# Altium footprint library DIP-DBL  0607.PCBLIB: 54 footprints (part 4 of 4)
Each footprint in its own frame and in the unit in brackets; x right, y up, seen from the top. Pads: shape width x height; smd on the part's side, far side on the other; paste and mask are expansions set on the pad; w line width, h text height; cw(c..) or ccw(c..) is an arc to the next point about the centre after c.
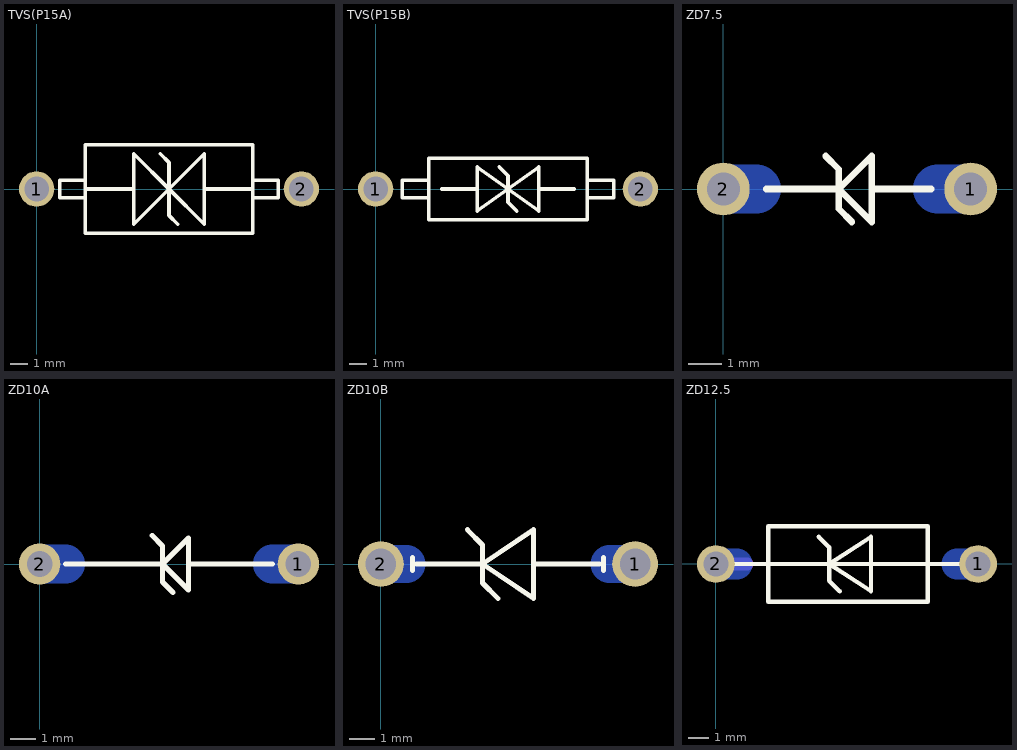
[diagram p3: the footprints below, top view; thin cyan lines are the x and y axes]

## TVS(P15A) [mm]
pads (2):
  round 2 hole 1.4: 1(0,0) 2(15,0)
TopOverlay:
  lines w0.2: 2.75,-0.5 1.3,-0.5 1.3,0.5 2.75,0.5 ; 2.75,0 5.5,0 ; 7,2 7.5,1.5 7.5,-1.5 8,-2 ; 9.5,0 12.15,0 ; 12.25,-0.5 13.7,-0.5 13.7,0.5 12.25,0.5 ; 2.75,-2.5 12.25,-2.5 12.25,2.5 2.75,2.5 2.75,-2.5 ; 5.5,-2 5.5,2 7.5,0 9.5,-2 9.5,2 5.5,-2

## TVS(P15B) [mm]
pads (2):
  round 2 hole 1.4: 1(0,0) 2(15,0)
TopOverlay:
  lines w0.2: 3,-0.5 1.5,-0.5 1.5,0.5 3,0.5 ; 3.75,0 5.75,0 ; 7,1.25 7.5,0.75 7.5,-0.75 8,-1.25 ; 9.25,0 11.25,0 ; 12,-0.5 13.5,-0.5 13.5,0.5 12,0.5 ; 7.5,0 9.25,-1.25 9.25,1.25 7.5,0 ; 7.5,0 7.5,0 ; 7.5,0 5.75,-1.25 5.75,1.25 7.5,0 ; 7.5,0 7.5,0 ; 3,-1.75 12,-1.75 12,1.75 3,1.75 3,-1.75

## ZD7.5 [mm]
pads (2):
  round 1.6 hole 1: 1(7.5,0) 2(0,0)
BottomLayer:
  lines w1.5: 0,0 1,0 ; 6.5,0 7.5,0
TopOverlay:
  lines w0.2: 1.3,0 3.5,0 ; 3.1,1 3.5,0.6 3.5,-0.6 3.9,-1 ; 4.5,0 6.3,0 ; 3.5,0 4.5,-1 4.5,1 3.5,0
BottomSolder:
  lines w1: 0,0 1,0 ; 6.5,0 7.5,0

## ZD10A [mm]
pads (2):
  round 1.6 hole 1: 1(10,0) 2(0,0)
BottomLayer:
  lines w1.5: 0,0 1,0 ; 9,0 10,0
TopOverlay:
  lines w0.2: 1,0 4.75,0 ; 4.35,1.1 4.75,0.7 4.75,-0.7 5.15,-1.1 ; 5.75,0 9,0 ; 4.75,0 5.75,-1 5.75,1 4.75,0
BottomSolder:
  lines w1: 0,0 1,0 ; 9,0 10,0

## ZD10B [mm]
pads (2):
  round 1.8 hole 1.2: 1(10,0) 2(0,0)
BottomLayer:
  lines w1.5: 0,0 1,0 ; 9,0 10,0
TopOverlay:
  lines w0.2: 1.4,0 4,0 ; 3.4,1.35 4,0.75 4,-0.75 4.6,-1.35 ; 6,0 8.6,0 ; 4,0 6,1.35 6,-1.35 4,0
  lines w0.203: 1.25,-0.25 1.25,0.25 ; 8.75,-0.25 8.75,0.25
BottomSolder:
  lines w1: 0,0 1,0 ; 9,0 10,0

## ZD12.5 [mm] "P6KE56A"
pads (2):
  round 1.8 hole 1.2: 1(12.5,0) 2(0,0)
BottomLayer:
  lines w1.5: 0,0 1,0 ; 11.5,0 12.5,0
TopOverlay:
  lines w0.2: 0,0 12.5,0 8.6,0 ; 1.4,0 4,0 ; 4.9,1.3 5.4,0.8 5.4,-0.8 5.9,-1.3 ; 6,0 8.75,0 8,0 ; 2.5,-1.8 10.1,-1.8 10.1,1.8 2.5,1.8 2.5,-1.8 ; 5.4,0 7.4,-1.3 7.4,1.3 5.4,0
BottomSolder:
  lines w1: 0,0 1,0 ; 11.5,0 12.5,0
Mechanical7:
  lines w0.6: 0,0 1.5,0